# EAGLE library part STM32F30XVXT6 (library stm32)
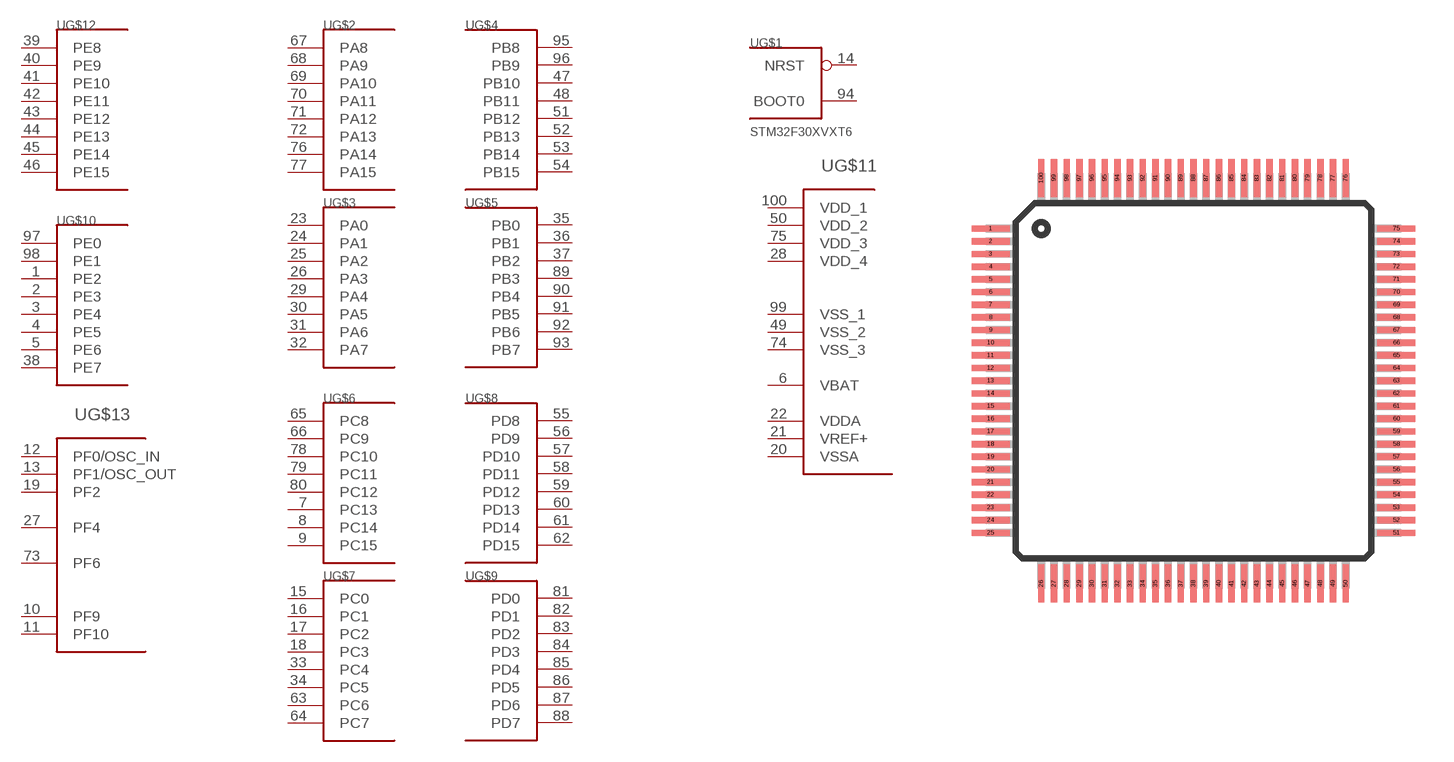
[diagram p4: symbol with the pads of TQFP100; footprint TQFP100]

Designator prefix -; gates G$1=BOOT_RST G$2=PORT_A_H G$3=PORT_A_L G$4=PORT_B_H G$5=PORT_B_L G$6=PORT_C_H G$7=PORT_C_L G$8=PORT_D_H G$9=PORT_D_L G$11=VCC_VDD_F303L G$12=PORT_E_H G$10=PORT_E_L G$13=PORT_F_303

## STM32F30XVXT6  [TQFP100]
1  G$10:PE2
2  G$10:PE3
3  G$10:PE4
4  G$10:PE5
5  G$10:PE6
6  G$11:VBAT
7  G$6:PC13
8  G$6:PC14
9  G$6:PC15
10  G$13:PF9
11  G$13:PF10
12  G$13:PF0/OSC_IN
13  G$13:PF1/OSC_OUT
14  G$1:NRST  in
15  G$7:PC0
16  G$7:PC1
17  G$7:PC2
18  G$7:PC3
19  G$13:PF2
20  G$11:VSSA
21  G$11:VREF+
22  G$11:VDDA
23  G$3:PA0
24  G$3:PA1
25  G$3:PA2
26  G$3:PA3
27  G$13:PF4
28  G$11:VDD_4
29  G$3:PA4
30  G$3:PA5
31  G$3:PA6
32  G$3:PA7
33  G$7:PC4
34  G$7:PC5
35  G$5:PB0
36  G$5:PB1
37  G$5:PB2
38  G$10:PE7
39  G$12:PE8
40  G$12:PE9
41  G$12:PE10
42  G$12:PE11
43  G$12:PE12
44  G$12:PE13
45  G$12:PE14
46  G$12:PE15
47  G$4:PB10
48  G$4:PB11
49  G$11:VSS_2
50  G$11:VDD_2
51  G$4:PB12
52  G$4:PB13
53  G$4:PB14
54  G$4:PB15
55  G$8:PD8
56  G$8:PD9
57  G$8:PD10
58  G$8:PD11
59  G$8:PD12
60  G$8:PD13
61  G$8:PD14
62  G$8:PD15
63  G$7:PC6
64  G$7:PC7
65  G$6:PC8
66  G$6:PC9
67  G$2:PA8
68  G$2:PA9
69  G$2:PA10
70  G$2:PA11
71  G$2:PA12
72  G$2:PA13
73  G$13:PF6
74  G$11:VSS_3
75  G$11:VDD_3
76  G$2:PA14
77  G$2:PA15
78  G$6:PC10
79  G$6:PC11
80  G$6:PC12
81  G$9:PD0
82  G$9:PD1
83  G$9:PD2
84  G$9:PD3
85  G$9:PD4
86  G$9:PD5
87  G$9:PD6
88  G$9:PD7
89  G$5:PB3
90  G$5:PB4
91  G$5:PB5
92  G$5:PB6
93  G$5:PB7
94  G$1:BOOT0  in
95  G$4:PB8
96  G$4:PB9
97  G$10:PE0
98  G$10:PE1
99  G$11:VSS_1
100  G$11:VDD_1

## Footprint TQFP100 (pad centres in mm)
smd 1.5 x 0.25: 1 -8,6; 2 -8,5.5; 3 -8,5; 4 -8,4.5; 5 -8,4; 6 -8,3.5; 7 -8,3; 8 -8,2.5; 9 -8,2; 10 -8,1.5; 11 -8,1; 12 -8,0.5; 13 -8,0; 14 -8,-0.5; 15 -8,-1; 16 -8,-1.5; 17 -8,-2; 18 -8,-2.5; 19 -8,-3; 20 -8,-3.5; 21 -8,-4; 22 -8,-4.5; 23 -8,-5; 24 -8,-5.5; 25 -8,-6; 51 8,-6; 52 8,-5.5; 53 8,-5; 54 8,-4.5; 55 8,-4; 56 8,-3.5; 57 8,-3; 58 8,-2.5; 59 8,-2; 60 8,-1.5; 61 8,-1; 62 8,-0.5; 63 8,0; 64 8,0.5; 65 8,1; 66 8,1.5; 67 8,2; 68 8,2.5; 69 8,3; 70 8,3.5; 71 8,4; 72 8,4.5; 73 8,5; 74 8,5.5; 75 8,6
smd 0.25 x 1.5: 26 -6,-8; 27 -5.5,-8; 28 -5,-8; 29 -4.5,-8; 30 -4,-8; 31 -3.5,-8; 32 -3,-8; 33 -2.5,-8; 34 -2,-8; 35 -1.5,-8; 36 -1,-8; 37 -0.5,-8; 38 0,-8; 39 0.5,-8; 40 1,-8; 41 1.5,-8; 42 2,-8; 43 2.5,-8; 44 3,-8; 45 3.5,-8; 46 4,-8; 47 4.5,-8; 48 5,-8; 49 5.5,-8; 50 6,-8; 76 6,8; 77 5.5,8; 78 5,8; 79 4.5,8; 80 4,8; 81 3.5,8; 82 3,8; 83 2.5,8; 84 2,8; 85 1.5,8; 86 1,8; 87 0.5,8; 88 0,8; 89 -0.5,8; 90 -1,8; 91 -1.5,8; 92 -2,8; 93 -2.5,8; 94 -3,8; 95 -3.5,8; 96 -4,8; 97 -4.5,8; 98 -5,8; 99 -5.5,8; 100 -6,8